# Altium footprint library ZICM2410 Eva Kit-V1.07.PcbLib: 38 footprints (part 1 of 3)
Each footprint in its own frame and in the unit in brackets; x right, y up, seen from the top. Pads: shape width x height; smd on the part's side, far side on the other; paste and mask are expansions set on the pad; w line width, h text height; cw(c..) or ccw(c..) is an arc to the next point about the centre after c.
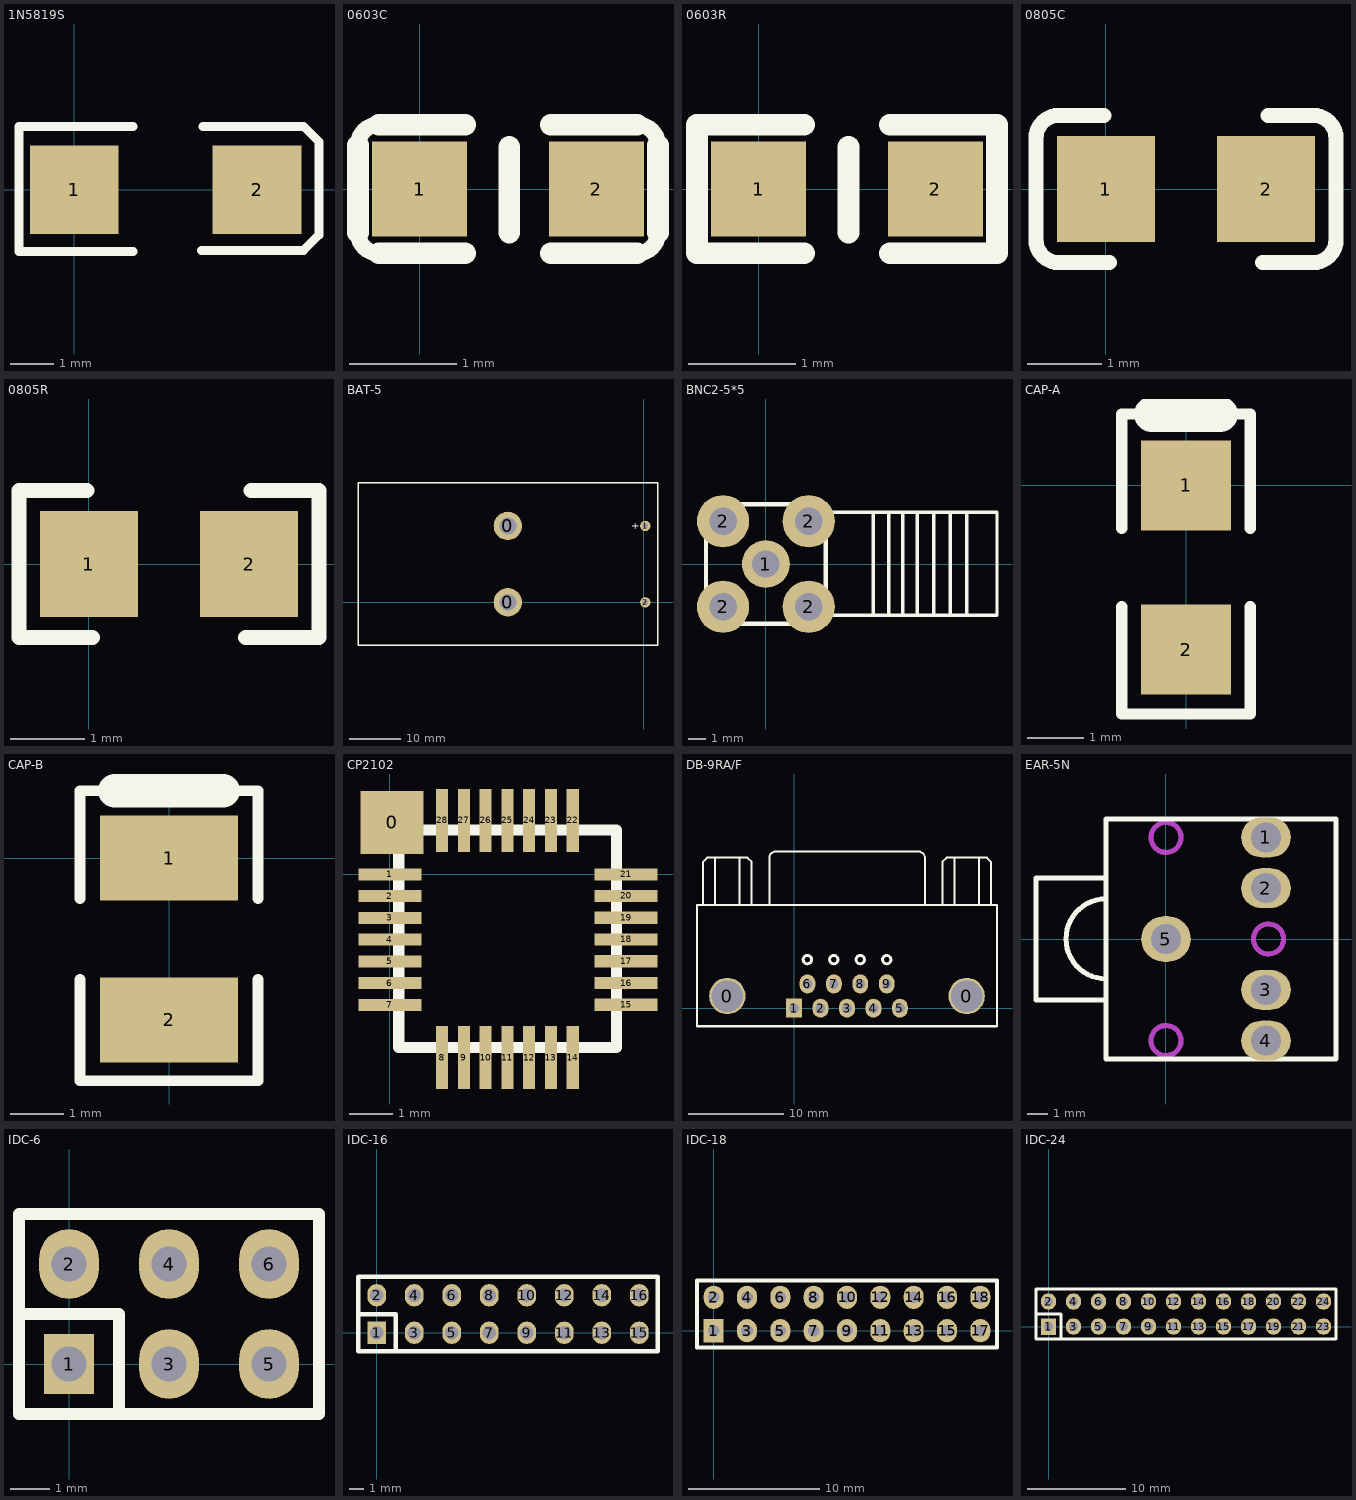
[diagram p0: the footprints below, top view; thin cyan lines are the x and y axes]

## 1N5819S [mil]
pads (2):
  rect 80x80 smd: 1(0,0) 2(165,0)
Top Overlay:
  lines w8: 53,-56 -50,-56 -50,57 53,57 ; 115,-55 207,-55 221,-41 221,43 207,57 116,57

## 0603C [mil]
height 374.02
pads (2):
  rect 35x35 smd: 1(0,0) 2(65,0)
Top Overlay:
  lines w6: -22.62,-16 ccw(c-15,-16) -15,-23.62 ; -22.62,16 cw(c-15,16) -15,23.62 ; 80,-23.62 ccw(c80,-16) 87.62,-16 ; 80,23.62 cw(c80,16) 87.62,16
  lines w8: -22.62,-16 -22.62,16 ; -15,-23.62 16.75,-23.62 ; -15,23.62 16.75,23.62 ; 33,-16 33,15.5 ; 48.25,-23.62 80,-23.62 ; 48.25,23.62 80,23.62 ; 87.62,-16 87.62,16

## 0603R [mil]
height 374.02
pads (2):
  rect 35x35 smd: 1(0,0) 2(65,0)
Top Overlay:
  lines w8: 16.75,-23.62 -22.62,-23.62 -22.62,23.62 16.75,23.62 ; 33,-16 33,15.5 ; 48.24,-23.62 87.61,-23.62 87.61,23.62 48.24,23.62

## 0805C [mil]
height 374.02
pads (2):
  rect 52x56 smd: 1(0,0) 2(85,0)
Top Overlay:
  lines w8: -1,39 -25,39 ccw(c-25,27) -37,27 -37,-27 ccw(c-25,-27) -25,-39 2,-39 ; 83,-39 110,-39 ccw(c110,-27) 122,-27 122,27 ccw(c110,27) 110,39 86,39

## 0805R [mil]
height 149.61
pads (2):
  rect 52x56 smd: 1(0,0) 2(85,0)
Top Overlay:
  lines w8: -1,39 -37,39 -37,-39 2,-39 ; 83,-39 122,-39 122,39 86,39

## BAT-5 [mil]
height 590.55
pads (4):
  round 220 hole 130: 0(-1051.08,-1) 0(-1051.08,589.55)
  round 80 hole 40: 1(11.91,589.55) 2(11.91,-1)
Top Overlay:
  lines w10: 110.24,293.98 110.24,295.28 ; -2210.66,-334 -2210.66,924.55 110.34,924.55 110.34,-334 -2210.66,-334
  text "+" at -95.76,564.55 h56

## BNC2-5*5 [mil] "Wifi天线插座"
height 374.02
pads (5):
  round 110 hole 63: 1(0,0)
  round 120 hole 63: 2(-98.43,-98.43) 2(-98.43,98.43) 2(98.43,-98.43) 2(98.43,98.43)
Top Overlay:
  lines w8: 137.8,-118 531.5,-118 531.5,119 137.8,119 ; 247,-118.11 247,118.11 ; 282,-118 282,119 ; 315,-118 315,119 ; 348,-118 348,119 ; 386,-118 386,119 ; 424,-118 424,119 ; 462,-118 462,119
  lines w10: -137.8,-137.8 -137.8,137.8 137.8,137.8 137.8,-137.8 -137.8,-137.8

## CAP-A [mm]
height 9.5
pads (2):
  rect 1.6x1.6 smd: 1(0,0) 2(0,-2.921)
Top Overlay:
  lines w0.2: -1.143,-2.159 -1.143,-4.064 1.143,-4.064 1.143,-2.159 ; -1.143,-0.762 -1.143,1.27 1.143,1.27 1.143,-0.762
  lines w0.635: -0.61,1.27 0.61,1.27

## CAP-B [mm]
pads (2):
  rect 2.6x1.6 smd: 1(0,0) 2(0,-3.048)
Top Overlay:
  lines w0.2: -1.676,-2.286 -1.676,-4.191 1.676,-4.191 1.676,-2.286 ; -1.676,-0.762 -1.676,1.27 1.676,1.27 1.676,-0.762
  lines w0.635: -1.016,1.27 1.016,1.27

## CP2102 [mil]
height 35
pads (29):
  rect 57x57 smd: 0(2,47)
  rect 57x11 smd: 1(0,0) 2(0,-19.68) 3(0,-39.37) 4(0,-59.06) 5(0,-78.74) 6(0,-98.43) 7(0,-118.11) 15(213.72,-118) 16(213.72,-98.31) 17(213.72,-78.63) 18(213.72,-58.94) 19(213.72,-39.26) 20(213.72,-19.57) 21(213.72,0)
  rect 11x57 smd: 8(47.28,-165.72) 9(66.96,-165.72) 10(86.65,-165.72) 11(106.33,-165.72) 12(126.02,-165.72) 13(145.7,-165.72) 14(165.39,-165.72) 22(165.39,48.72) 23(145.7,48.72) 24(126.02,48.72) 25(106.33,48.72) 26(86.65,48.72) 27(66.96,48.72) 28(47.28,48.72)
Top Overlay:
  lines w10: 159.85,40 204.85,40 ; 204.85,40 204.85,-156.85 8,-156.85 8,40 204.85,40

## DB-9RA/F [mil]
pads (11):
  round 150 hole 130: 0(-275,50) 0(711,50)
  rect 65x78 hole 40: 1(0,0)
  oval 65x78 hole 40: 2(109,0) 3(218,0) 4(327,0) 5(436,0) 6(55,100) 7(164,100) 8(273,100) 9(382,100)
Top Overlay:
  circle w12: c381.74,200 r17.26
  circle w12: c54.74,200 r17.26
  circle w12: c163.74,200 r17.26
  circle w12: c272.74,200 r17.26
  lines w8: -375,425 -375,603 -358,620 -192,620 -175,603 -175,425 ; -325,425 -325,620 ; -225,425 -225,620 ; -102,425 -102,620 cw(c-77,620) -77,645 514,645 cw(c514,620) 539,620 539,425 ; 611,425 611,603 628,620 794,620 811,603 811,425 ; 661,425 661,620 ; 761,425 761,620
  lines w10: -400,-75 -400,425 836,425 836,-75 -400,-75

## EAR-5N [mil]
height 374.02
pads (5):
  oval 98x78.74 hole 59: 1(196.85,200) 2(196.85,100) 3(196.85,-100) 4(196.85,-200)
  oval 98x90 hole 59: 5(0,0)
Top Overlay:
  lines w10: -118.11,-120 -255.91,-120 -255.91,120 -118.11,120 ; -118.11,-78.48 cw(c-118.11,0.26) -118.11,79 ; -118.11,-236 334.65,-236 334.65,236 -118.11,236 -118.11,-236
Keep-Out Layer:
  circle w5: c201.85,0 r29.53
  circle w5: c0,200 r29.53
  circle w5: c0,-200 r29.53
Mechanical 1 keep-out:
  circle w10: c201.85,0 r29.53
  circle w10: c0,-200 r29.53
  circle w10: c0,200 r29.53

## IDC-6 [mil]
height 374.02
pads (6):
  rect 50x60 hole 35: 1(0,0)
  oval 60x70 hole 35: 2(0,100) 3(100,0) 4(100,100) 5(200,0) 6(200,100)
Top Overlay:
  lines w12: -50,50 50,50 50,-50 ; -50,-50 -50,150 250,150 250,-50 -50,-50

## IDC-16 [mil]
pads (16):
  rect 50x60 hole 35: 1(0,0)
  oval 50x60 hole 35: 2(0,100) 3(100,0) 4(100,100) 5(200,0) 6(200,100) 7(300,0) 8(300,100) 9(400,0) 10(400,100) 11(500,0) 12(500,100) 13(600,0) 14(600,100) 15(700,0) 16(700,100)
Top Overlay:
  lines w12: -50,50 50,50 50,-50 ; -50,-50 750,-50 750,150 -50,150 -50,-50

## IDC-18 [mil]
height 374.02
pads (18):
  rect 60x70 hole 35: 1(0,0)
  oval 60x70 hole 35: 2(0,100) 3(100,0) 4(100,100) 5(200,0) 6(200,100) 7(300,0) 8(300,100) 9(400,0) 10(400,100) 11(500,0) 12(500,100) 13(600,0) 14(600,100) 15(700,0) 16(700,100) 17(800,0) 18(800,100)
Top Overlay:
  lines w12: -50,-50 850,-50 850,150 -50,150 -50,-50

## IDC-24 [mil]
pads (24):
  rect 60x66 hole 35: 1(0,0)
  oval 60x66 hole 35: 2(0,100) 3(100,0) 4(100,100) 5(200,0) 6(200,100) 7(300,0) 8(300,100) 9(400,0) 10(400,100) 11(500,0) 12(500,100) 13(600,0) 14(600,100) 15(700,0) 16(700,100) 17(800,0) 18(800,100) 19(900,0) 20(900,100) 21(1000,0) 22(1000,100) 23(1100,0) 24(1100,100)
Top Overlay:
  lines w12: -50,50 50,50 50,-50 ; -50,-50 1150,-50 1150,150 -50,150 -50,-50